# Altium schematic symbol library SCH - IC-Memory - W25Q64JV.SchLib: 1 symbol
Pins are listed as number, name and electrical type; pins without a type are passive.

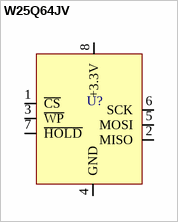
[diagram p0: symbol W25Q64JV]

## W25Q64JV
designator U?
pins: 1 ~{CS} (in) "Inverting chip select", 2 MISO (out) "Master In Slave Out", 3 ~{WP} (in) "Inverting Write Protect", 4 GND (power), 5 MOSI (in) "Master Out Slave In", 6 SCK (in) "Clock", 7 ~{HOLD} (in) "Hold", 8 +3.3V (power) "Power In"